# EAGLE library part VNH5019 (library wicker)
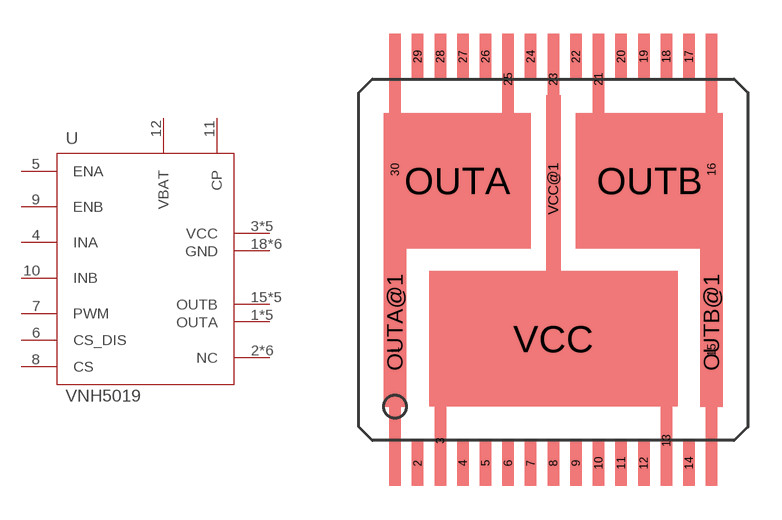
[diagram p2: symbol with the pads of MULTIPOWERSO-30; footprint MULTIPOWERSO-30]

Designator prefix -

## VNH5019  [MULTIPOWERSO-30]
1  OUTA
2  NC  nc
3  VCC  pwr
4  INA
5  ENA
6  CS_DIS
7  PWM
8  CS
9  ENB
10  INB
11  CP
12  VBAT  pwr
13  VCC  pwr
14  NC  nc
15  OUTB
16  OUTB
17  NC  nc
18  GND  pwr
19  GND  pwr
20  GND  pwr
21  OUTB
22  NC  nc
23  VCC  pwr
24  NC  nc
25  OUTA
26  GND  pwr
27  GND  pwr
28  GND  pwr
29  NC  nc
30  OUTA
OUTA  OUTA
OUTA@1  OUTA
OUTB  OUTB
OUTB@1  OUTB
VCC  VCC  pwr
VCC@1  VCC  pwr

## Footprint MULTIPOWERSO-30 (pad centres in mm)
smd 0.508 x 12: 1 -7,-4; 15 7,-4; 16 7,4; 30 -7,4
smd 0.508 x 2: 2 -6,-9; 4 -4,-9; 5 -3,-9; 6 -2,-9; 7 -1,-9; 8 0,-9; 9 1,-9; 10 2,-9; 11 3,-9; 12 4,-9; 14 6,-9; 17 6,9; 18 5,9; 19 4,9; 20 3,9; 22 1,9; 24 -1,9; 26 -3,9; 27 -4,9; 28 -5,9; 29 -6,9
smd 0.508 x 4: 3 -5,-8; 13 5,-8; 21 2,8; 23 0,8; 25 -2,8
smd 6.5 x 6: OUTA -4.25,3.5; OUTB 4.25,3.5
smd 1 x 7.5: OUTA@1 -7,-2.755; OUTB@1 7,-2.755
smd 11 x 6: VCC 0,-3.5
smd 0.65 x 8.3: VCC@1 0,3.145